# Altium schematic symbol library PT_DVIULC6-4SC6.SchLib: 1 symbol
Pins are listed as number, name and electrical type; pins without a type are passive.

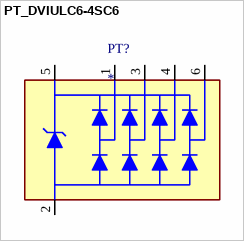
[diagram p0: symbol PT_DVIULC6-4SC6]

## PT_DVIULC6-4SC6
designator PT?
pins: 1, 2, 3, 4, 5, 6